# Altium schematic symbol library Nuvoton_Nano102_112 Series.SchLib: 12 symbols
Pins are listed as number, name and electrical type; pins without a type are passive.

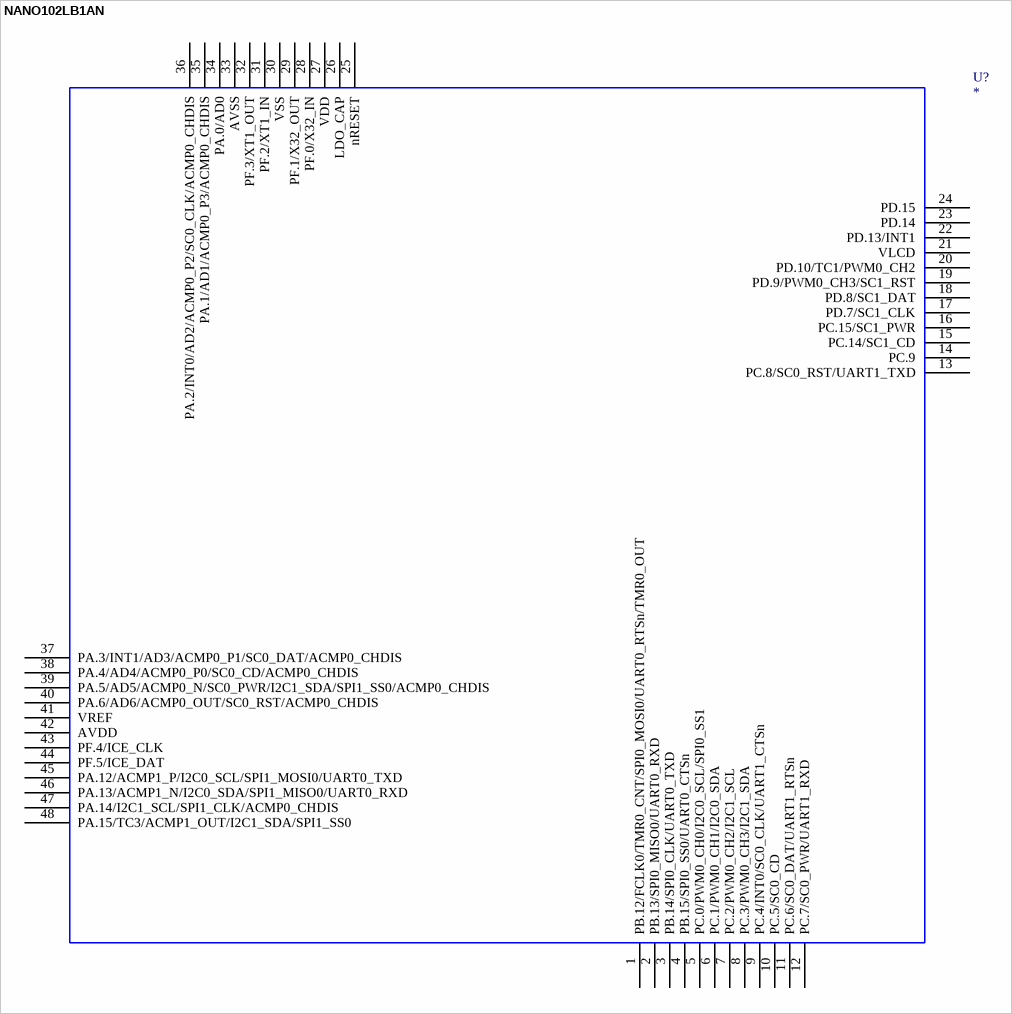
[diagram p0: symbol NANO102LB1AN]

## NANO102LB1AN
designator U?
NANO102LB1AN; OriginalSymbolOrigin: *; NANO102LB1AN: *; Value: *
footprint __MCU_LQFP_48__
pins: 1 PB.12/FCLK0/TMR0_CNT/SPI0_MOSI0/UART0_RTSn/TMR0_OUT, 2 PB.13/SPI0_MISO0/UART0_RXD, 3 PB.14/SPI0_CLK/UART0_TXD, 4 PB.15/SPI0_SS0/UART0_CTSn, 5 PC.0/PWM0_CH0/I2C0_SCL/SPI0_SS1, 6 PC.1/PWM0_CH1/I2C0_SDA, 7 PC.2/PWM0_CH2/I2C1_SCL, 8 PC.3/PWM0_CH3/I2C1_SDA, 9 PC.4/INT0/SC0_CLK/UART1_CTSn, 10 PC.5/SC0_CD, 11 PC.6/SC0_DAT/UART1_RTSn, 12 PC.7/SC0_PWR/UART1_RXD, 13 PC.8/SC0_RST/UART1_TXD, 14 PC.9, 15 PC.14/SC1_CD, 16 PC.15/SC1_PWR, 17 PD.7/SC1_CLK, 18 PD.8/SC1_DAT, 19 PD.9/PWM0_CH3/SC1_RST, 20 PD.10/TC1/PWM0_CH2, 21 VLCD, 22 PD.13/INT1, 23 PD.14, 24 PD.15, 25 nRESET, 26 LDO_CAP, 27 VDD, 28 PF.0/X32_IN, 29 PF.1/X32_OUT, 30 VSS, 31 PF.2/XT1_IN, 32 PF.3/XT1_OUT, 33 AVSS, 34 PA.0/AD0, 35 PA.1/AD1/ACMP0_P3/ACMP0_CHDIS, 36 PA.2/INT0/AD2/ACMP0_P2/SC0_CLK/ACMP0_CHDIS, 37 PA.3/INT1/AD3/ACMP0_P1/SC0_DAT/ACMP0_CHDIS, 38 PA.4/AD4/ACMP0_P0/SC0_CD/ACMP0_CHDIS, 39 PA.5/AD5/ACMP0_N/SC0_PWR/I2C1_SDA/SPI1_SS0/ACMP0_CHDIS, 40 PA.6/AD6/ACMP0_OUT/SC0_RST/ACMP0_CHDIS, 41 VREF, 42 AVDD, 43 PF.4/ICE_CLK, 44 PF.5/ICE_DAT, 45 PA.12/ACMP1_P/I2C0_SCL/SPI1_MOSI0/UART0_TXD, 46 PA.13/ACMP1_N/I2C0_SDA/SPI1_MISO0/UART0_RXD, 47 PA.14/I2C1_SCL/SPI1_CLK/ACMP0_CHDIS, 48 PA.15/TC3/ACMP1_OUT/I2C1_SDA/SPI1_SS0
2 alternate drawings of the same symbol

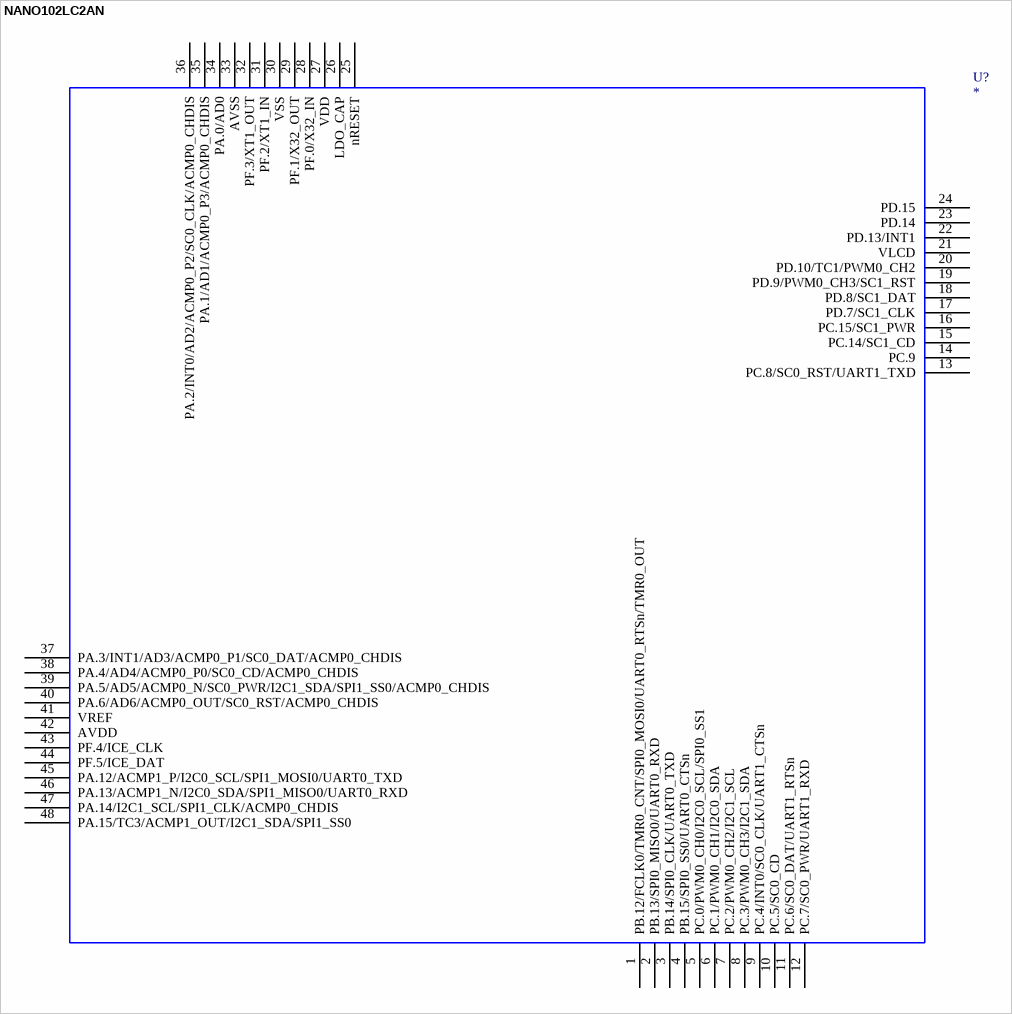
[diagram p1: symbol NANO102LC2AN]

## NANO102LC2AN
designator U?
NANO102LC2AN; OriginalSymbolOrigin: *; NANO102LC2AN: *; Value: *
footprint __MCU_LQFP_48__
pins: 1 PB.12/FCLK0/TMR0_CNT/SPI0_MOSI0/UART0_RTSn/TMR0_OUT, 2 PB.13/SPI0_MISO0/UART0_RXD, 3 PB.14/SPI0_CLK/UART0_TXD, 4 PB.15/SPI0_SS0/UART0_CTSn, 5 PC.0/PWM0_CH0/I2C0_SCL/SPI0_SS1, 6 PC.1/PWM0_CH1/I2C0_SDA, 7 PC.2/PWM0_CH2/I2C1_SCL, 8 PC.3/PWM0_CH3/I2C1_SDA, 9 PC.4/INT0/SC0_CLK/UART1_CTSn, 10 PC.5/SC0_CD, 11 PC.6/SC0_DAT/UART1_RTSn, 12 PC.7/SC0_PWR/UART1_RXD, 13 PC.8/SC0_RST/UART1_TXD, 14 PC.9, 15 PC.14/SC1_CD, 16 PC.15/SC1_PWR, 17 PD.7/SC1_CLK, 18 PD.8/SC1_DAT, 19 PD.9/PWM0_CH3/SC1_RST, 20 PD.10/TC1/PWM0_CH2, 21 VLCD, 22 PD.13/INT1, 23 PD.14, 24 PD.15, 25 nRESET, 26 LDO_CAP, 27 VDD, 28 PF.0/X32_IN, 29 PF.1/X32_OUT, 30 VSS, 31 PF.2/XT1_IN, 32 PF.3/XT1_OUT, 33 AVSS, 34 PA.0/AD0, 35 PA.1/AD1/ACMP0_P3/ACMP0_CHDIS, 36 PA.2/INT0/AD2/ACMP0_P2/SC0_CLK/ACMP0_CHDIS, 37 PA.3/INT1/AD3/ACMP0_P1/SC0_DAT/ACMP0_CHDIS, 38 PA.4/AD4/ACMP0_P0/SC0_CD/ACMP0_CHDIS, 39 PA.5/AD5/ACMP0_N/SC0_PWR/I2C1_SDA/SPI1_SS0/ACMP0_CHDIS, 40 PA.6/AD6/ACMP0_OUT/SC0_RST/ACMP0_CHDIS, 41 VREF, 42 AVDD, 43 PF.4/ICE_CLK, 44 PF.5/ICE_DAT, 45 PA.12/ACMP1_P/I2C0_SCL/SPI1_MOSI0/UART0_TXD, 46 PA.13/ACMP1_N/I2C0_SDA/SPI1_MISO0/UART0_RXD, 47 PA.14/I2C1_SCL/SPI1_CLK/ACMP0_CHDIS, 48 PA.15/TC3/ACMP1_OUT/I2C1_SDA/SPI1_SS0
2 alternate drawings of the same symbol

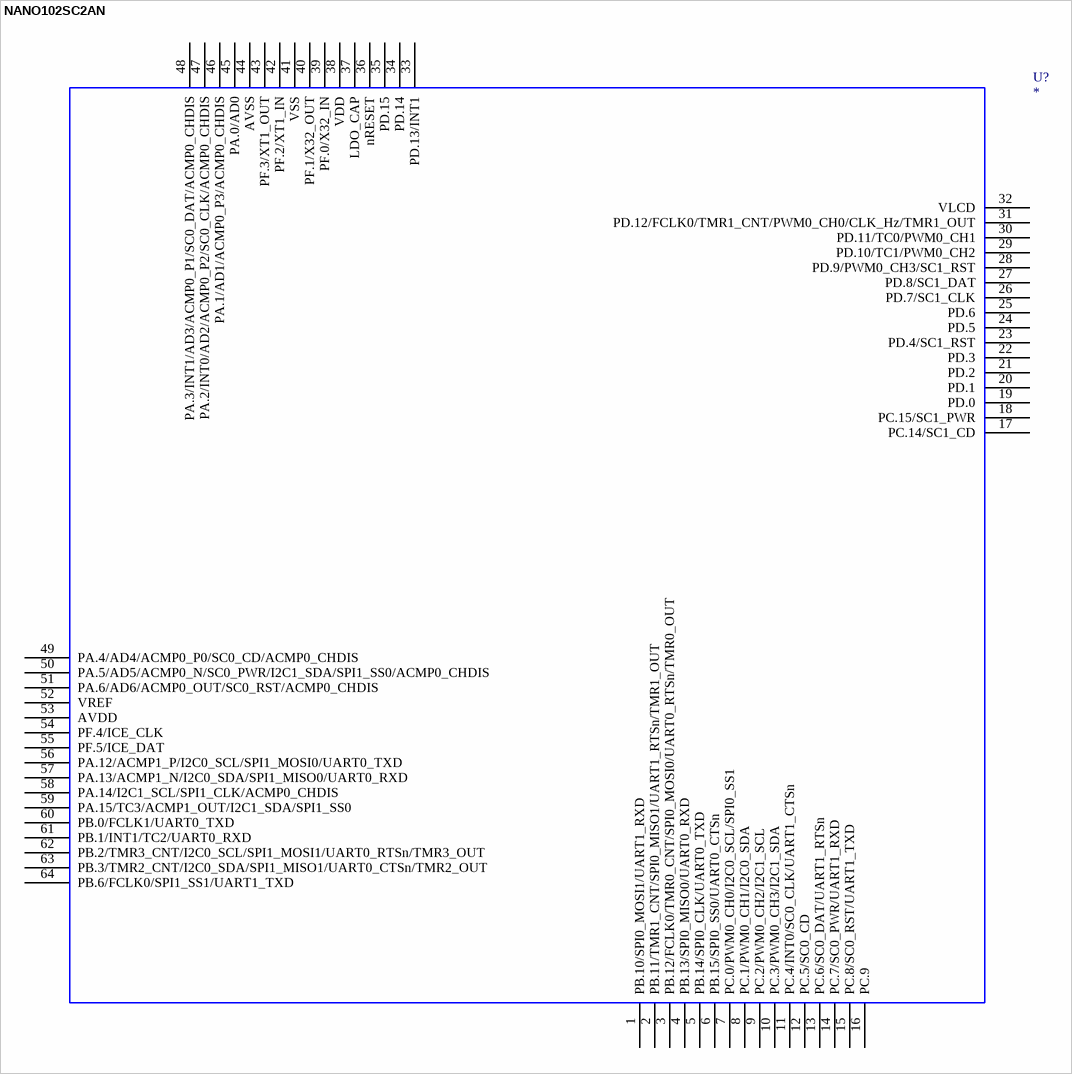
[diagram p2: symbol NANO102SC2AN]

## NANO102SC2AN
designator U?
NANO102SC2AN; OriginalSymbolOrigin: *; NANO102SC2AN: *; Value: *
footprint __MCU_LQFP_64_7x7__
pins: 1 PB.10/SPI0_MOSI1/UART1_RXD, 2 PB.11/TMR1_CNT/SPI0_MISO1/UART1_RTSn/TMR1_OUT, 3 PB.12/FCLK0/TMR0_CNT/SPI0_MOSI0/UART0_RTSn/TMR0_OUT, 4 PB.13/SPI0_MISO0/UART0_RXD, 5 PB.14/SPI0_CLK/UART0_TXD, 6 PB.15/SPI0_SS0/UART0_CTSn, 7 PC.0/PWM0_CH0/I2C0_SCL/SPI0_SS1, 8 PC.1/PWM0_CH1/I2C0_SDA, 9 PC.2/PWM0_CH2/I2C1_SCL, 10 PC.3/PWM0_CH3/I2C1_SDA, 11 PC.4/INT0/SC0_CLK/UART1_CTSn, 12 PC.5/SC0_CD, 13 PC.6/SC0_DAT/UART1_RTSn, 14 PC.7/SC0_PWR/UART1_RXD, 15 PC.8/SC0_RST/UART1_TXD, 16 PC.9, 17 PC.14/SC1_CD, 18 PC.15/SC1_PWR, 19 PD.0, 20 PD.1, 21 PD.2, 22 PD.3, 23 PD.4/SC1_RST, 24 PD.5, 25 PD.6, 26 PD.7/SC1_CLK, 27 PD.8/SC1_DAT, 28 PD.9/PWM0_CH3/SC1_RST, 29 PD.10/TC1/PWM0_CH2, 30 PD.11/TC0/PWM0_CH1, 31 PD.12/FCLK0/TMR1_CNT/PWM0_CH0/CLK_Hz/TMR1_OUT, 32 VLCD, 33 PD.13/INT1, 34 PD.14, 35 PD.15, 36 nRESET, 37 LDO_CAP, 38 VDD, 39 PF.0/X32_IN, 40 PF.1/X32_OUT, 41 VSS, 42 PF.2/XT1_IN, 43 PF.3/XT1_OUT, 44 AVSS, 45 PA.0/AD0, 46 PA.1/AD1/ACMP0_P3/ACMP0_CHDIS, 47 PA.2/INT0/AD2/ACMP0_P2/SC0_CLK/ACMP0_CHDIS, 48 PA.3/INT1/AD3/ACMP0_P1/SC0_DAT/ACMP0_CHDIS, 49 PA.4/AD4/ACMP0_P0/SC0_CD/ACMP0_CHDIS, 50 PA.5/AD5/ACMP0_N/SC0_PWR/I2C1_SDA/SPI1_SS0/ACMP0_CHDIS, 51 PA.6/AD6/ACMP0_OUT/SC0_RST/ACMP0_CHDIS, 52 VREF, 53 AVDD, 54 PF.4/ICE_CLK, 55 PF.5/ICE_DAT, 56 PA.12/ACMP1_P/I2C0_SCL/SPI1_MOSI0/UART0_TXD, 57 PA.13/ACMP1_N/I2C0_SDA/SPI1_MISO0/UART0_RXD, 58 PA.14/I2C1_SCL/SPI1_CLK/ACMP0_CHDIS, 59 PA.15/TC3/ACMP1_OUT/I2C1_SDA/SPI1_SS0, 60 PB.0/FCLK1/UART0_TXD, 61 PB.1/INT1/TC2/UART0_RXD, 62 PB.2/TMR3_CNT/I2C0_SCL/SPI1_MOSI1/UART0_RTSn/TMR3_OUT, 63 PB.3/TMR2_CNT/I2C0_SDA/SPI1_MISO1/UART0_CTSn/TMR2_OUT, 64 PB.6/FCLK0/SPI1_SS1/UART1_TXD
2 alternate drawings of the same symbol

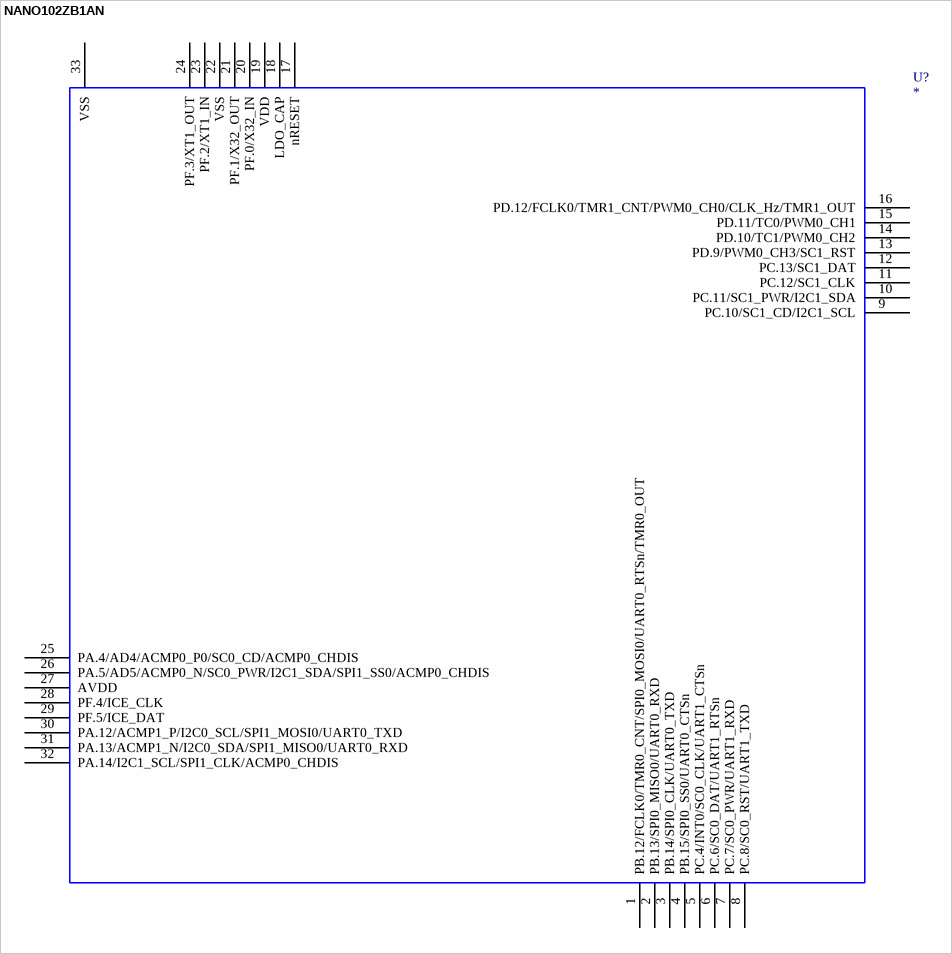
[diagram p3: symbol NANO102ZB1AN]

## NANO102ZB1AN
designator U?
NANO102ZB1AN; OriginalSymbolOrigin: *; NANO102ZB1AN: *; Value: *
footprint __MCU_QFN_33_5x5__
pins: 1 PB.12/FCLK0/TMR0_CNT/SPI0_MOSI0/UART0_RTSn/TMR0_OUT, 2 PB.13/SPI0_MISO0/UART0_RXD, 3 PB.14/SPI0_CLK/UART0_TXD, 4 PB.15/SPI0_SS0/UART0_CTSn, 5 PC.4/INT0/SC0_CLK/UART1_CTSn, 6 PC.6/SC0_DAT/UART1_RTSn, 7 PC.7/SC0_PWR/UART1_RXD, 8 PC.8/SC0_RST/UART1_TXD, 9 PC.10/SC1_CD/I2C1_SCL, 10 PC.11/SC1_PWR/I2C1_SDA, 11 PC.12/SC1_CLK, 12 PC.13/SC1_DAT, 13 PD.9/PWM0_CH3/SC1_RST, 14 PD.10/TC1/PWM0_CH2, 15 PD.11/TC0/PWM0_CH1, 16 PD.12/FCLK0/TMR1_CNT/PWM0_CH0/CLK_Hz/TMR1_OUT, 17 nRESET, 18 LDO_CAP, 19 VDD, 20 PF.0/X32_IN, 21 PF.1/X32_OUT, 22 VSS, 23 PF.2/XT1_IN, 24 PF.3/XT1_OUT, 25 PA.4/AD4/ACMP0_P0/SC0_CD/ACMP0_CHDIS, 26 PA.5/AD5/ACMP0_N/SC0_PWR/I2C1_SDA/SPI1_SS0/ACMP0_CHDIS, 27 AVDD, 28 PF.4/ICE_CLK, 29 PF.5/ICE_DAT, 30 PA.12/ACMP1_P/I2C0_SCL/SPI1_MOSI0/UART0_TXD, 31 PA.13/ACMP1_N/I2C0_SDA/SPI1_MISO0/UART0_RXD, 32 PA.14/I2C1_SCL/SPI1_CLK/ACMP0_CHDIS, 33 VSS
2 alternate drawings of the same symbol

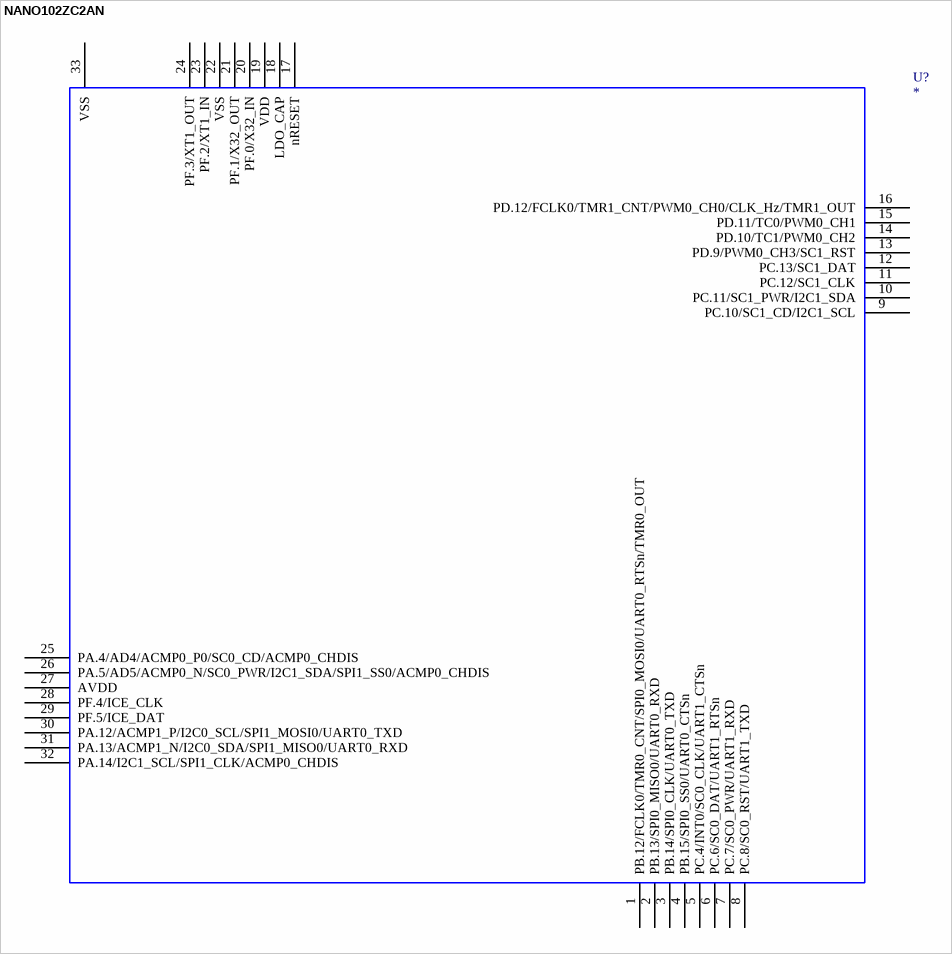
[diagram p4: symbol NANO102ZC2AN]

## NANO102ZC2AN
designator U?
NANO102ZC2AN; OriginalSymbolOrigin: *; NANO102ZC2AN: *; Value: *
footprint __MCU_QFN_33_5x5__
pins: 1 PB.12/FCLK0/TMR0_CNT/SPI0_MOSI0/UART0_RTSn/TMR0_OUT, 2 PB.13/SPI0_MISO0/UART0_RXD, 3 PB.14/SPI0_CLK/UART0_TXD, 4 PB.15/SPI0_SS0/UART0_CTSn, 5 PC.4/INT0/SC0_CLK/UART1_CTSn, 6 PC.6/SC0_DAT/UART1_RTSn, 7 PC.7/SC0_PWR/UART1_RXD, 8 PC.8/SC0_RST/UART1_TXD, 9 PC.10/SC1_CD/I2C1_SCL, 10 PC.11/SC1_PWR/I2C1_SDA, 11 PC.12/SC1_CLK, 12 PC.13/SC1_DAT, 13 PD.9/PWM0_CH3/SC1_RST, 14 PD.10/TC1/PWM0_CH2, 15 PD.11/TC0/PWM0_CH1, 16 PD.12/FCLK0/TMR1_CNT/PWM0_CH0/CLK_Hz/TMR1_OUT, 17 nRESET, 18 LDO_CAP, 19 VDD, 20 PF.0/X32_IN, 21 PF.1/X32_OUT, 22 VSS, 23 PF.2/XT1_IN, 24 PF.3/XT1_OUT, 25 PA.4/AD4/ACMP0_P0/SC0_CD/ACMP0_CHDIS, 26 PA.5/AD5/ACMP0_N/SC0_PWR/I2C1_SDA/SPI1_SS0/ACMP0_CHDIS, 27 AVDD, 28 PF.4/ICE_CLK, 29 PF.5/ICE_DAT, 30 PA.12/ACMP1_P/I2C0_SCL/SPI1_MOSI0/UART0_TXD, 31 PA.13/ACMP1_N/I2C0_SDA/SPI1_MISO0/UART0_RXD, 32 PA.14/I2C1_SCL/SPI1_CLK/ACMP0_CHDIS, 33 VSS
2 alternate drawings of the same symbol

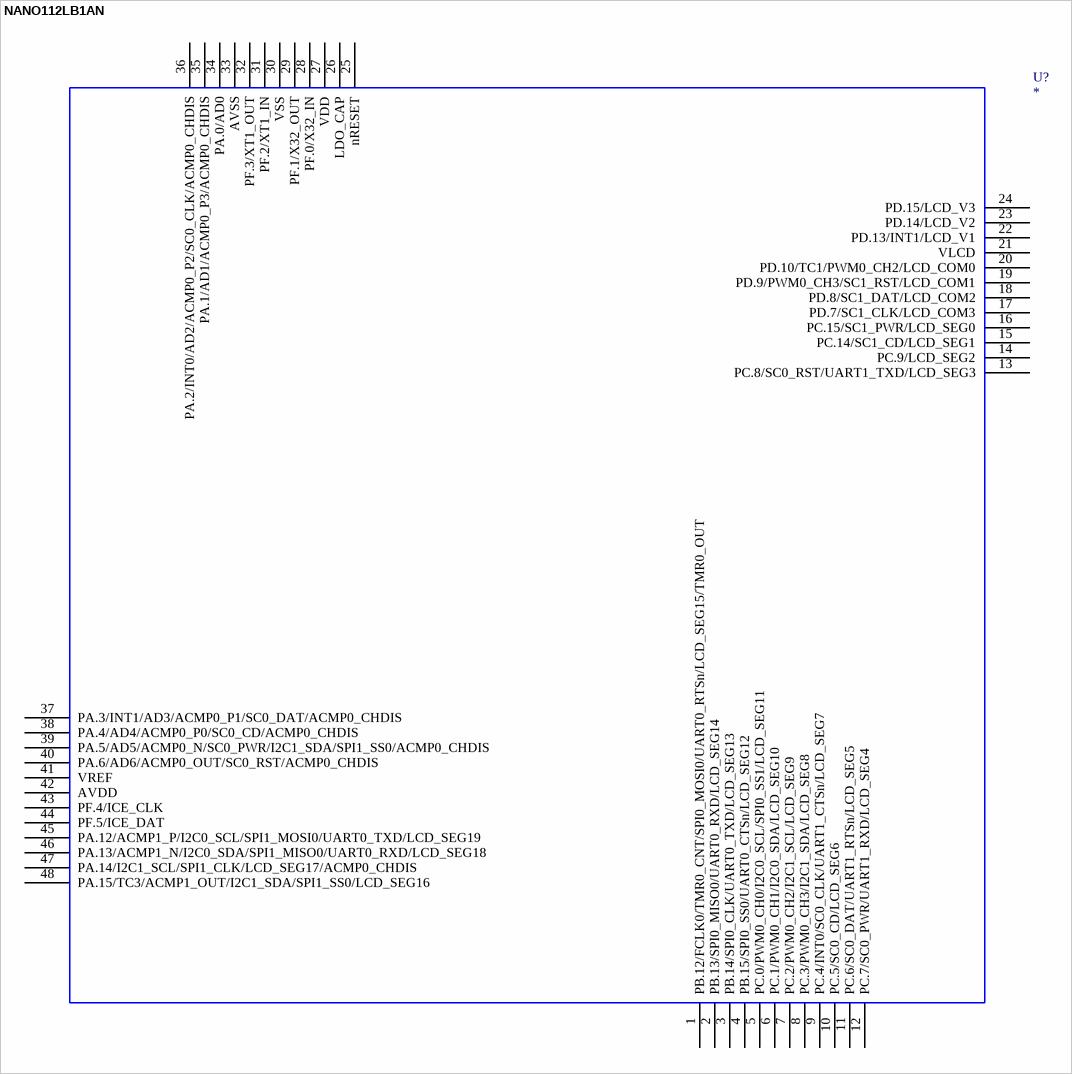
[diagram p5: symbol NANO112LB1AN]

## NANO112LB1AN
designator U?
NANO112LB1AN; OriginalSymbolOrigin: *; NANO112LB1AN: *; Value: *
footprint __MCU_LQFP_48__
pins: 1 PB.12/FCLK0/TMR0_CNT/SPI0_MOSI0/UART0_RTSn/LCD_SEG15/TMR0_OUT, 2 PB.13/SPI0_MISO0/UART0_RXD/LCD_SEG14, 3 PB.14/SPI0_CLK/UART0_TXD/LCD_SEG13, 4 PB.15/SPI0_SS0/UART0_CTSn/LCD_SEG12, 5 PC.0/PWM0_CH0/I2C0_SCL/SPI0_SS1/LCD_SEG11, 6 PC.1/PWM0_CH1/I2C0_SDA/LCD_SEG10, 7 PC.2/PWM0_CH2/I2C1_SCL/LCD_SEG9, 8 PC.3/PWM0_CH3/I2C1_SDA/LCD_SEG8, 9 PC.4/INT0/SC0_CLK/UART1_CTSn/LCD_SEG7, 10 PC.5/SC0_CD/LCD_SEG6, 11 PC.6/SC0_DAT/UART1_RTSn/LCD_SEG5, 12 PC.7/SC0_PWR/UART1_RXD/LCD_SEG4, 13 PC.8/SC0_RST/UART1_TXD/LCD_SEG3, 14 PC.9/LCD_SEG2, 15 PC.14/SC1_CD/LCD_SEG1, 16 PC.15/SC1_PWR/LCD_SEG0, 17 PD.7/SC1_CLK/LCD_COM3, 18 PD.8/SC1_DAT/LCD_COM2, 19 PD.9/PWM0_CH3/SC1_RST/LCD_COM1, 20 PD.10/TC1/PWM0_CH2/LCD_COM0, 21 VLCD, 22 PD.13/INT1/LCD_V1, 23 PD.14/LCD_V2, 24 PD.15/LCD_V3, 25 nRESET, 26 LDO_CAP, 27 VDD, 28 PF.0/X32_IN, 29 PF.1/X32_OUT, 30 VSS, 31 PF.2/XT1_IN, 32 PF.3/XT1_OUT, 33 AVSS, 34 PA.0/AD0, 35 PA.1/AD1/ACMP0_P3/ACMP0_CHDIS, 36 PA.2/INT0/AD2/ACMP0_P2/SC0_CLK/ACMP0_CHDIS, 37 PA.3/INT1/AD3/ACMP0_P1/SC0_DAT/ACMP0_CHDIS, 38 PA.4/AD4/ACMP0_P0/SC0_CD/ACMP0_CHDIS, 39 PA.5/AD5/ACMP0_N/SC0_PWR/I2C1_SDA/SPI1_SS0/ACMP0_CHDIS, 40 PA.6/AD6/ACMP0_OUT/SC0_RST/ACMP0_CHDIS, 41 VREF, 42 AVDD, 43 PF.4/ICE_CLK, 44 PF.5/ICE_DAT, 45 PA.12/ACMP1_P/I2C0_SCL/SPI1_MOSI0/UART0_TXD/LCD_SEG19, 46 PA.13/ACMP1_N/I2C0_SDA/SPI1_MISO0/UART0_RXD/LCD_SEG18, 47 PA.14/I2C1_SCL/SPI1_CLK/LCD_SEG17/ACMP0_CHDIS, 48 PA.15/TC3/ACMP1_OUT/I2C1_SDA/SPI1_SS0/LCD_SEG16
2 alternate drawings of the same symbol

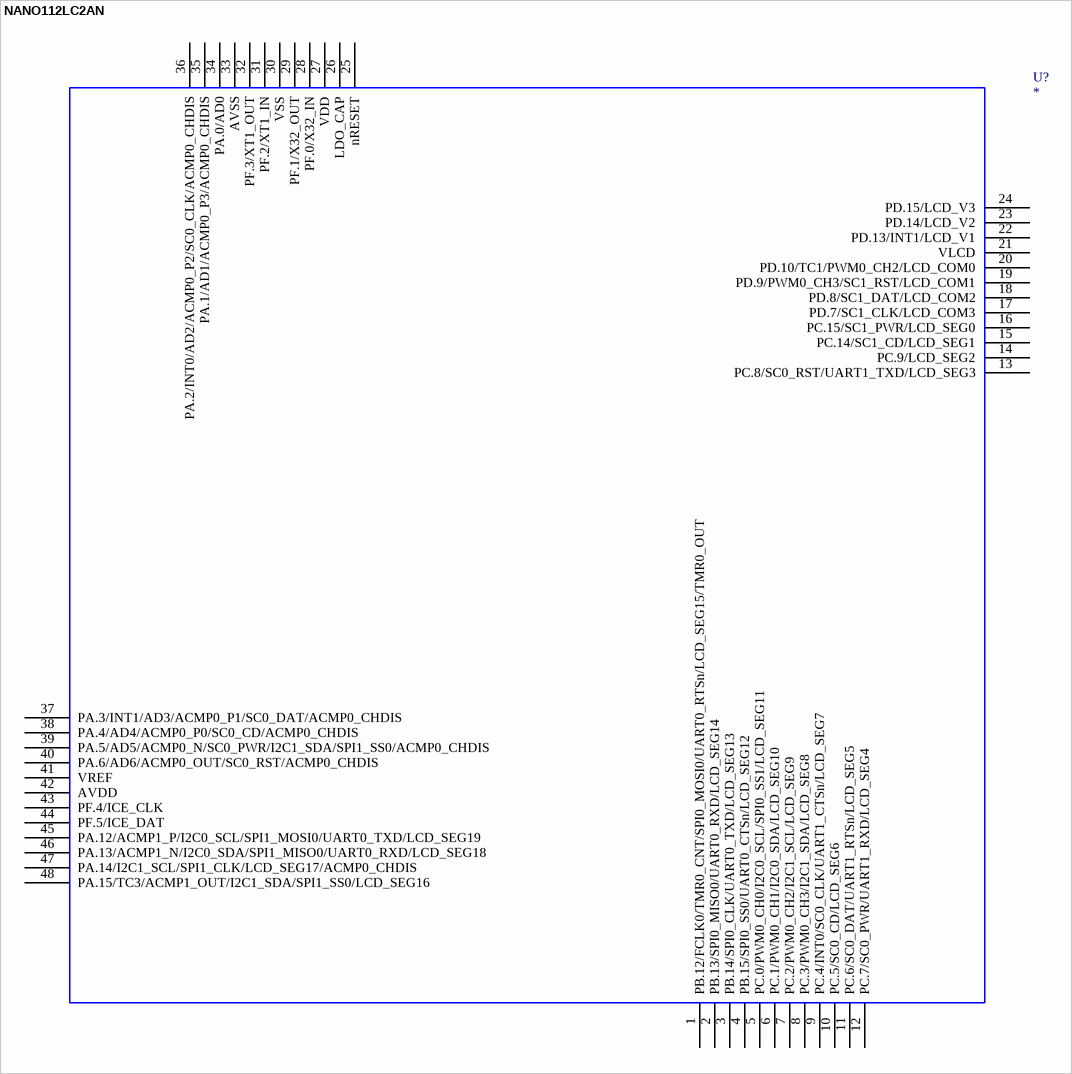
[diagram p6: symbol NANO112LC2AN]

## NANO112LC2AN
designator U?
NANO112LC2AN; OriginalSymbolOrigin: *; NANO112LC2AN: *; Value: *
footprint __MCU_LQFP_48__
pins: 1 PB.12/FCLK0/TMR0_CNT/SPI0_MOSI0/UART0_RTSn/LCD_SEG15/TMR0_OUT, 2 PB.13/SPI0_MISO0/UART0_RXD/LCD_SEG14, 3 PB.14/SPI0_CLK/UART0_TXD/LCD_SEG13, 4 PB.15/SPI0_SS0/UART0_CTSn/LCD_SEG12, 5 PC.0/PWM0_CH0/I2C0_SCL/SPI0_SS1/LCD_SEG11, 6 PC.1/PWM0_CH1/I2C0_SDA/LCD_SEG10, 7 PC.2/PWM0_CH2/I2C1_SCL/LCD_SEG9, 8 PC.3/PWM0_CH3/I2C1_SDA/LCD_SEG8, 9 PC.4/INT0/SC0_CLK/UART1_CTSn/LCD_SEG7, 10 PC.5/SC0_CD/LCD_SEG6, 11 PC.6/SC0_DAT/UART1_RTSn/LCD_SEG5, 12 PC.7/SC0_PWR/UART1_RXD/LCD_SEG4, 13 PC.8/SC0_RST/UART1_TXD/LCD_SEG3, 14 PC.9/LCD_SEG2, 15 PC.14/SC1_CD/LCD_SEG1, 16 PC.15/SC1_PWR/LCD_SEG0, 17 PD.7/SC1_CLK/LCD_COM3, 18 PD.8/SC1_DAT/LCD_COM2, 19 PD.9/PWM0_CH3/SC1_RST/LCD_COM1, 20 PD.10/TC1/PWM0_CH2/LCD_COM0, 21 VLCD, 22 PD.13/INT1/LCD_V1, 23 PD.14/LCD_V2, 24 PD.15/LCD_V3, 25 nRESET, 26 LDO_CAP, 27 VDD, 28 PF.0/X32_IN, 29 PF.1/X32_OUT, 30 VSS, 31 PF.2/XT1_IN, 32 PF.3/XT1_OUT, 33 AVSS, 34 PA.0/AD0, 35 PA.1/AD1/ACMP0_P3/ACMP0_CHDIS, 36 PA.2/INT0/AD2/ACMP0_P2/SC0_CLK/ACMP0_CHDIS, 37 PA.3/INT1/AD3/ACMP0_P1/SC0_DAT/ACMP0_CHDIS, 38 PA.4/AD4/ACMP0_P0/SC0_CD/ACMP0_CHDIS, 39 PA.5/AD5/ACMP0_N/SC0_PWR/I2C1_SDA/SPI1_SS0/ACMP0_CHDIS, 40 PA.6/AD6/ACMP0_OUT/SC0_RST/ACMP0_CHDIS, 41 VREF, 42 AVDD, 43 PF.4/ICE_CLK, 44 PF.5/ICE_DAT, 45 PA.12/ACMP1_P/I2C0_SCL/SPI1_MOSI0/UART0_TXD/LCD_SEG19, 46 PA.13/ACMP1_N/I2C0_SDA/SPI1_MISO0/UART0_RXD/LCD_SEG18, 47 PA.14/I2C1_SCL/SPI1_CLK/LCD_SEG17/ACMP0_CHDIS, 48 PA.15/TC3/ACMP1_OUT/I2C1_SDA/SPI1_SS0/LCD_SEG16
2 alternate drawings of the same symbol

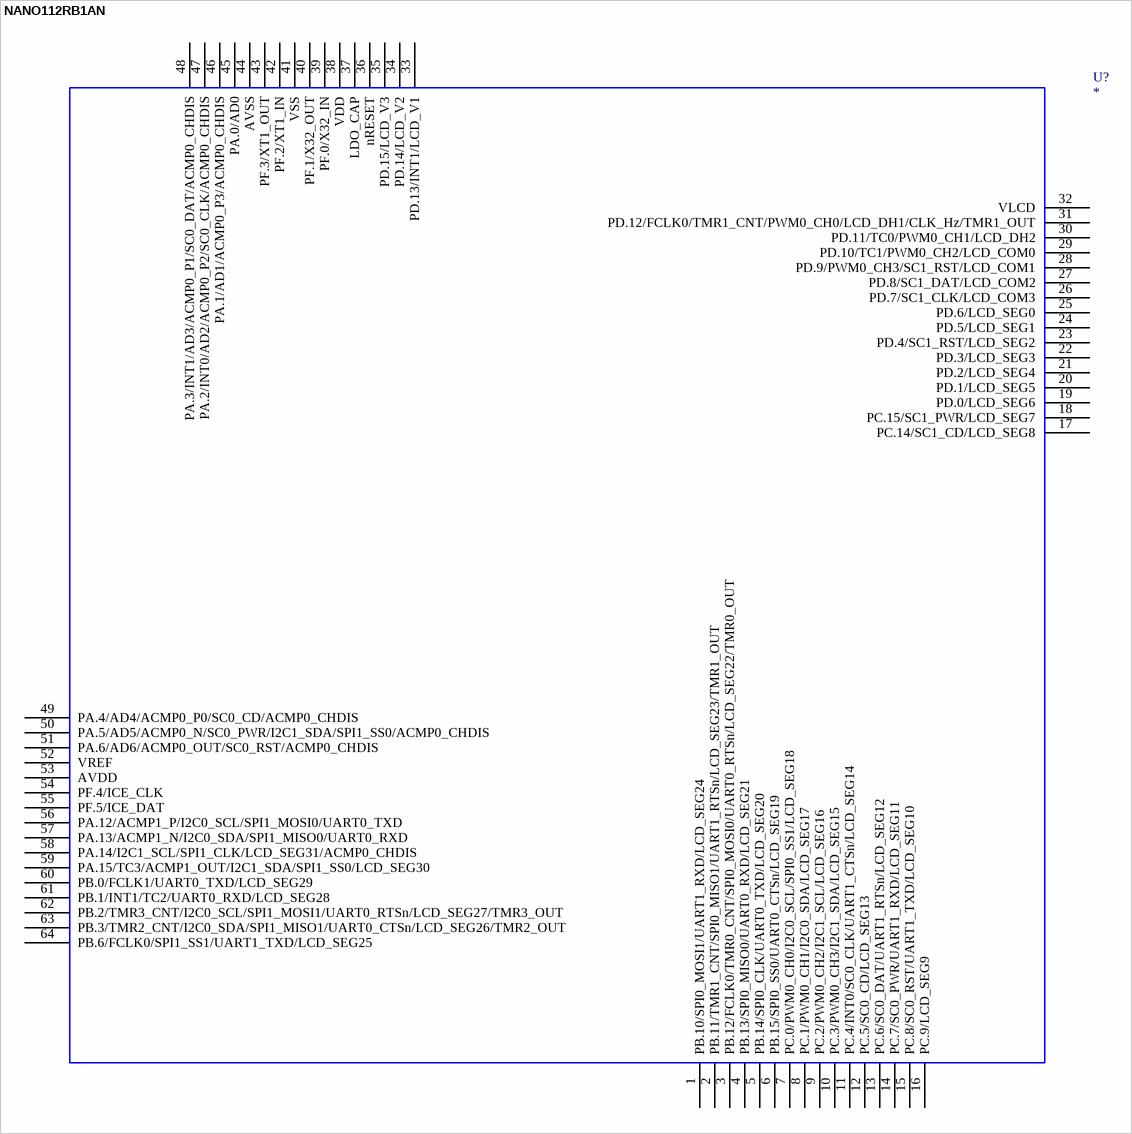
[diagram p7: symbol NANO112RB1AN]

## NANO112RB1AN
designator U?
NANO112RB1AN; OriginalSymbolOrigin: *; NANO112RB1AN: *; Value: *
footprint __MCU_LQFP_64_10x10__
pins: 1 PB.10/SPI0_MOSI1/UART1_RXD/LCD_SEG24, 2 PB.11/TMR1_CNT/SPI0_MISO1/UART1_RTSn/LCD_SEG23/TMR1_OUT, 3 PB.12/FCLK0/TMR0_CNT/SPI0_MOSI0/UART0_RTSn/LCD_SEG22/TMR0_OUT, 4 PB.13/SPI0_MISO0/UART0_RXD/LCD_SEG21, 5 PB.14/SPI0_CLK/UART0_TXD/LCD_SEG20, 6 PB.15/SPI0_SS0/UART0_CTSn/LCD_SEG19, 7 PC.0/PWM0_CH0/I2C0_SCL/SPI0_SS1/LCD_SEG18, 8 PC.1/PWM0_CH1/I2C0_SDA/LCD_SEG17, 9 PC.2/PWM0_CH2/I2C1_SCL/LCD_SEG16, 10 PC.3/PWM0_CH3/I2C1_SDA/LCD_SEG15, 11 PC.4/INT0/SC0_CLK/UART1_CTSn/LCD_SEG14, 12 PC.5/SC0_CD/LCD_SEG13, 13 PC.6/SC0_DAT/UART1_RTSn/LCD_SEG12, 14 PC.7/SC0_PWR/UART1_RXD/LCD_SEG11, 15 PC.8/SC0_RST/UART1_TXD/LCD_SEG10, 16 PC.9/LCD_SEG9, 17 PC.14/SC1_CD/LCD_SEG8, 18 PC.15/SC1_PWR/LCD_SEG7, 19 PD.0/LCD_SEG6, 20 PD.1/LCD_SEG5, 21 PD.2/LCD_SEG4, 22 PD.3/LCD_SEG3, 23 PD.4/SC1_RST/LCD_SEG2, 24 PD.5/LCD_SEG1, 25 PD.6/LCD_SEG0, 26 PD.7/SC1_CLK/LCD_COM3, 27 PD.8/SC1_DAT/LCD_COM2, 28 PD.9/PWM0_CH3/SC1_RST/LCD_COM1, 29 PD.10/TC1/PWM0_CH2/LCD_COM0, 30 PD.11/TC0/PWM0_CH1/LCD_DH2, 31 PD.12/FCLK0/TMR1_CNT/PWM0_CH0/LCD_DH1/CLK_Hz/TMR1_OUT, 32 VLCD, 33 PD.13/INT1/LCD_V1, 34 PD.14/LCD_V2, 35 PD.15/LCD_V3, 36 nRESET, 37 LDO_CAP, 38 VDD, 39 PF.0/X32_IN, 40 PF.1/X32_OUT, 41 VSS, 42 PF.2/XT1_IN, 43 PF.3/XT1_OUT, 44 AVSS, 45 PA.0/AD0, 46 PA.1/AD1/ACMP0_P3/ACMP0_CHDIS, 47 PA.2/INT0/AD2/ACMP0_P2/SC0_CLK/ACMP0_CHDIS, 48 PA.3/INT1/AD3/ACMP0_P1/SC0_DAT/ACMP0_CHDIS, 49 PA.4/AD4/ACMP0_P0/SC0_CD/ACMP0_CHDIS, 50 PA.5/AD5/ACMP0_N/SC0_PWR/I2C1_SDA/SPI1_SS0/ACMP0_CHDIS, 51 PA.6/AD6/ACMP0_OUT/SC0_RST/ACMP0_CHDIS, 52 VREF, 53 AVDD, 54 PF.4/ICE_CLK, 55 PF.5/ICE_DAT, 56 PA.12/ACMP1_P/I2C0_SCL/SPI1_MOSI0/UART0_TXD, 57 PA.13/ACMP1_N/I2C0_SDA/SPI1_MISO0/UART0_RXD, 58 PA.14/I2C1_SCL/SPI1_CLK/LCD_SEG31/ACMP0_CHDIS, 59 PA.15/TC3/ACMP1_OUT/I2C1_SDA/SPI1_SS0/LCD_SEG30, 60 PB.0/FCLK1/UART0_TXD/LCD_SEG29, 61 PB.1/INT1/TC2/UART0_RXD/LCD_SEG28, 62 PB.2/TMR3_CNT/I2C0_SCL/SPI1_MOSI1/UART0_RTSn/LCD_SEG27/TMR3_OUT, 63 PB.3/TMR2_CNT/I2C0_SDA/SPI1_MISO1/UART0_CTSn/LCD_SEG26/TMR2_OUT, 64 PB.6/FCLK0/SPI1_SS1/UART1_TXD/LCD_SEG25
2 alternate drawings of the same symbol

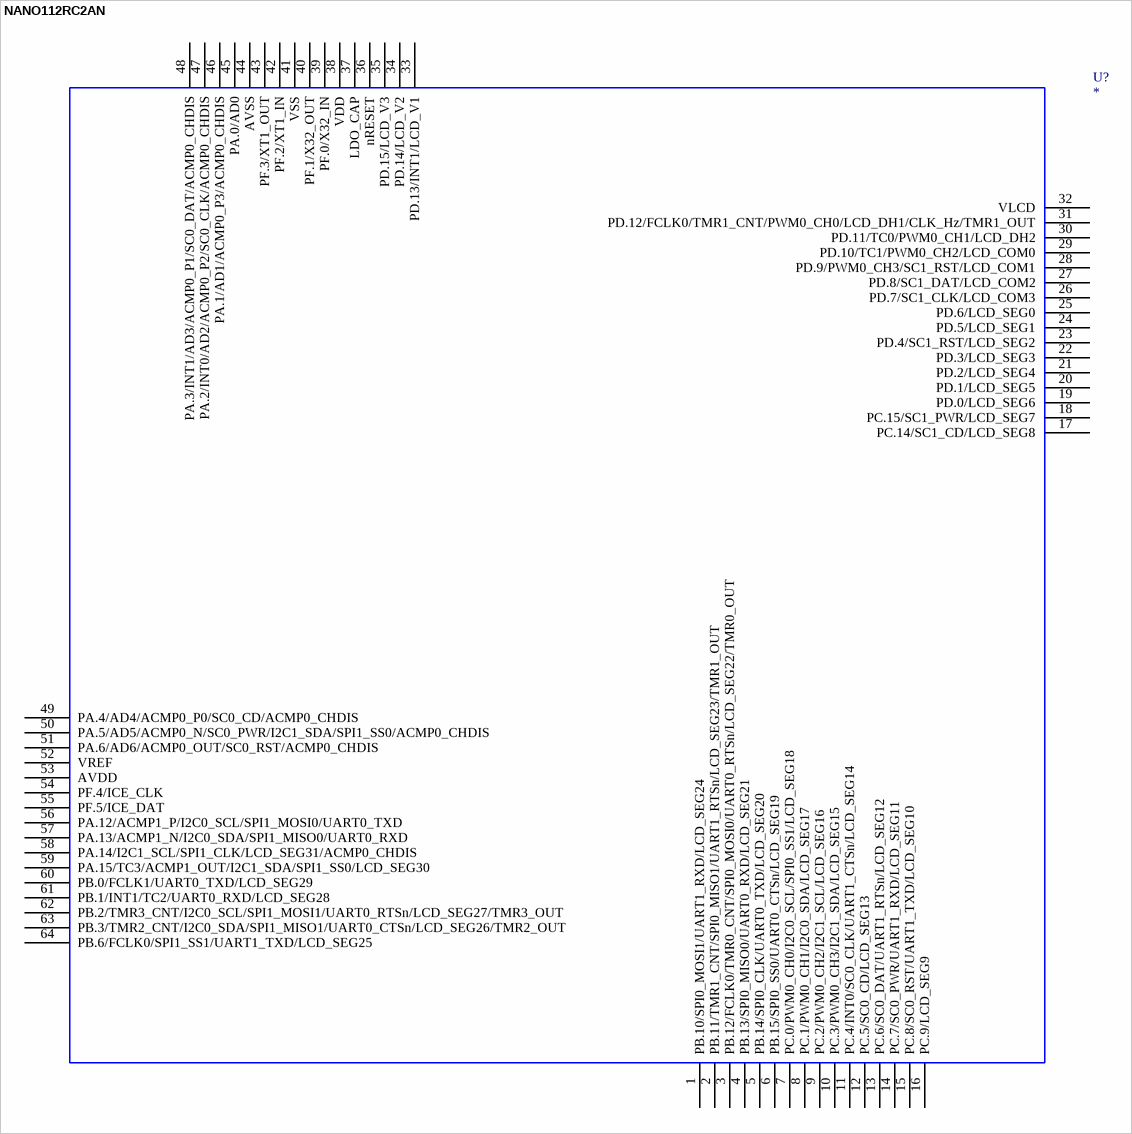
[diagram p8: symbol NANO112RC2AN]

## NANO112RC2AN
designator U?
NANO112RC2AN; OriginalSymbolOrigin: *; NANO112RC2AN: *; Value: *
footprint __MCU_LQFP_64_10x10__
pins: 1 PB.10/SPI0_MOSI1/UART1_RXD/LCD_SEG24, 2 PB.11/TMR1_CNT/SPI0_MISO1/UART1_RTSn/LCD_SEG23/TMR1_OUT, 3 PB.12/FCLK0/TMR0_CNT/SPI0_MOSI0/UART0_RTSn/LCD_SEG22/TMR0_OUT, 4 PB.13/SPI0_MISO0/UART0_RXD/LCD_SEG21, 5 PB.14/SPI0_CLK/UART0_TXD/LCD_SEG20, 6 PB.15/SPI0_SS0/UART0_CTSn/LCD_SEG19, 7 PC.0/PWM0_CH0/I2C0_SCL/SPI0_SS1/LCD_SEG18, 8 PC.1/PWM0_CH1/I2C0_SDA/LCD_SEG17, 9 PC.2/PWM0_CH2/I2C1_SCL/LCD_SEG16, 10 PC.3/PWM0_CH3/I2C1_SDA/LCD_SEG15, 11 PC.4/INT0/SC0_CLK/UART1_CTSn/LCD_SEG14, 12 PC.5/SC0_CD/LCD_SEG13, 13 PC.6/SC0_DAT/UART1_RTSn/LCD_SEG12, 14 PC.7/SC0_PWR/UART1_RXD/LCD_SEG11, 15 PC.8/SC0_RST/UART1_TXD/LCD_SEG10, 16 PC.9/LCD_SEG9, 17 PC.14/SC1_CD/LCD_SEG8, 18 PC.15/SC1_PWR/LCD_SEG7, 19 PD.0/LCD_SEG6, 20 PD.1/LCD_SEG5, 21 PD.2/LCD_SEG4, 22 PD.3/LCD_SEG3, 23 PD.4/SC1_RST/LCD_SEG2, 24 PD.5/LCD_SEG1, 25 PD.6/LCD_SEG0, 26 PD.7/SC1_CLK/LCD_COM3, 27 PD.8/SC1_DAT/LCD_COM2, 28 PD.9/PWM0_CH3/SC1_RST/LCD_COM1, 29 PD.10/TC1/PWM0_CH2/LCD_COM0, 30 PD.11/TC0/PWM0_CH1/LCD_DH2, 31 PD.12/FCLK0/TMR1_CNT/PWM0_CH0/LCD_DH1/CLK_Hz/TMR1_OUT, 32 VLCD, 33 PD.13/INT1/LCD_V1, 34 PD.14/LCD_V2, 35 PD.15/LCD_V3, 36 nRESET, 37 LDO_CAP, 38 VDD, 39 PF.0/X32_IN, 40 PF.1/X32_OUT, 41 VSS, 42 PF.2/XT1_IN, 43 PF.3/XT1_OUT, 44 AVSS, 45 PA.0/AD0, 46 PA.1/AD1/ACMP0_P3/ACMP0_CHDIS, 47 PA.2/INT0/AD2/ACMP0_P2/SC0_CLK/ACMP0_CHDIS, 48 PA.3/INT1/AD3/ACMP0_P1/SC0_DAT/ACMP0_CHDIS, 49 PA.4/AD4/ACMP0_P0/SC0_CD/ACMP0_CHDIS, 50 PA.5/AD5/ACMP0_N/SC0_PWR/I2C1_SDA/SPI1_SS0/ACMP0_CHDIS, 51 PA.6/AD6/ACMP0_OUT/SC0_RST/ACMP0_CHDIS, 52 VREF, 53 AVDD, 54 PF.4/ICE_CLK, 55 PF.5/ICE_DAT, 56 PA.12/ACMP1_P/I2C0_SCL/SPI1_MOSI0/UART0_TXD, 57 PA.13/ACMP1_N/I2C0_SDA/SPI1_MISO0/UART0_RXD, 58 PA.14/I2C1_SCL/SPI1_CLK/LCD_SEG31/ACMP0_CHDIS, 59 PA.15/TC3/ACMP1_OUT/I2C1_SDA/SPI1_SS0/LCD_SEG30, 60 PB.0/FCLK1/UART0_TXD/LCD_SEG29, 61 PB.1/INT1/TC2/UART0_RXD/LCD_SEG28, 62 PB.2/TMR3_CNT/I2C0_SCL/SPI1_MOSI1/UART0_RTSn/LCD_SEG27/TMR3_OUT, 63 PB.3/TMR2_CNT/I2C0_SDA/SPI1_MISO1/UART0_CTSn/LCD_SEG26/TMR2_OUT, 64 PB.6/FCLK0/SPI1_SS1/UART1_TXD/LCD_SEG25
2 alternate drawings of the same symbol

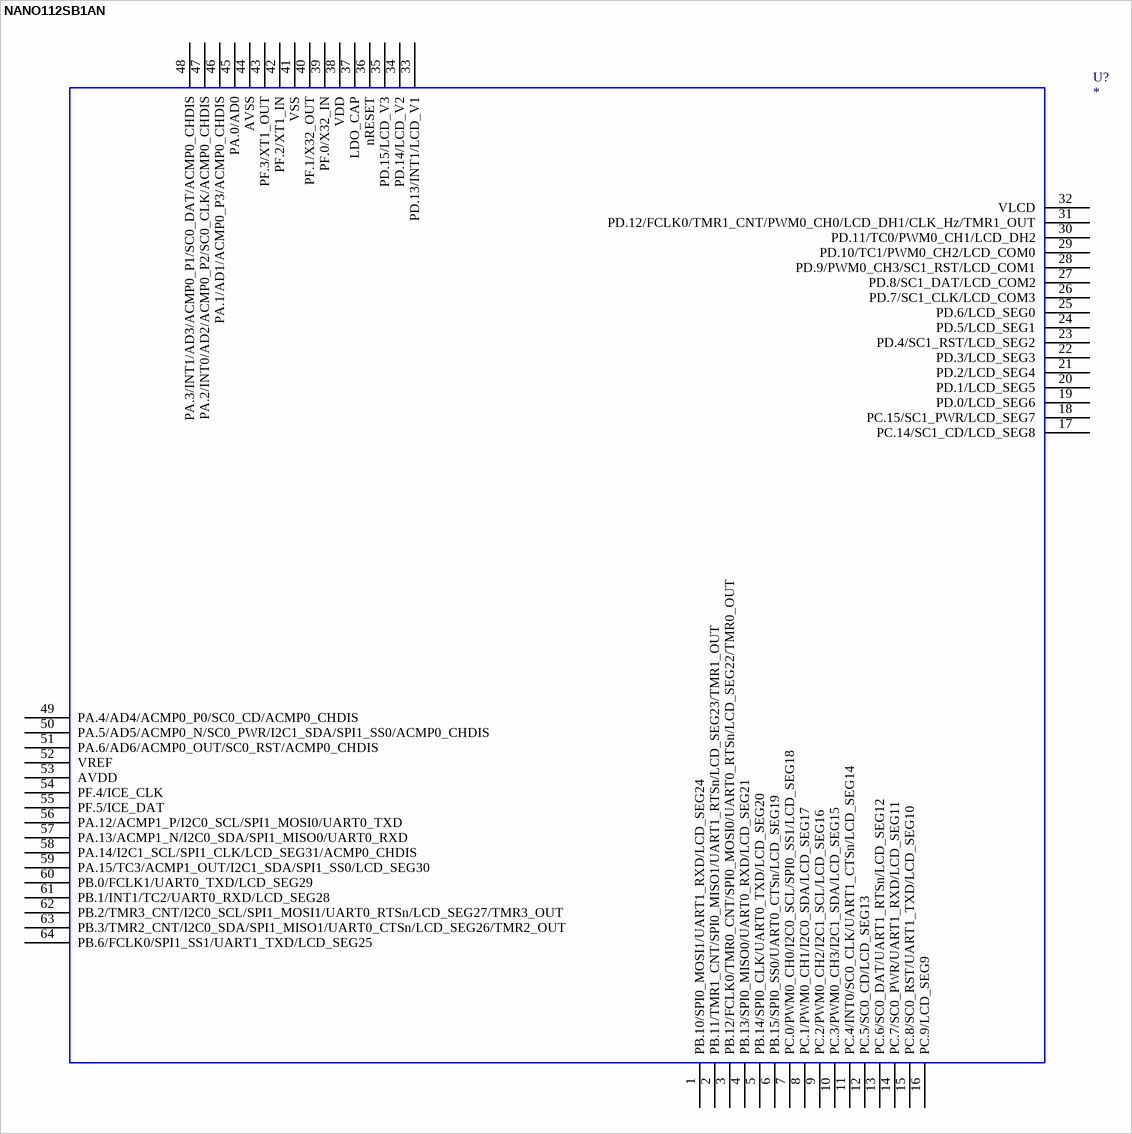
[diagram p9: symbol NANO112SB1AN]

## NANO112SB1AN
designator U?
NANO112SB1AN; OriginalSymbolOrigin: *; NANO112SB1AN: *; Value: *
footprint __MCU_LQFP_64_7x7__
pins: 1 PB.10/SPI0_MOSI1/UART1_RXD/LCD_SEG24, 2 PB.11/TMR1_CNT/SPI0_MISO1/UART1_RTSn/LCD_SEG23/TMR1_OUT, 3 PB.12/FCLK0/TMR0_CNT/SPI0_MOSI0/UART0_RTSn/LCD_SEG22/TMR0_OUT, 4 PB.13/SPI0_MISO0/UART0_RXD/LCD_SEG21, 5 PB.14/SPI0_CLK/UART0_TXD/LCD_SEG20, 6 PB.15/SPI0_SS0/UART0_CTSn/LCD_SEG19, 7 PC.0/PWM0_CH0/I2C0_SCL/SPI0_SS1/LCD_SEG18, 8 PC.1/PWM0_CH1/I2C0_SDA/LCD_SEG17, 9 PC.2/PWM0_CH2/I2C1_SCL/LCD_SEG16, 10 PC.3/PWM0_CH3/I2C1_SDA/LCD_SEG15, 11 PC.4/INT0/SC0_CLK/UART1_CTSn/LCD_SEG14, 12 PC.5/SC0_CD/LCD_SEG13, 13 PC.6/SC0_DAT/UART1_RTSn/LCD_SEG12, 14 PC.7/SC0_PWR/UART1_RXD/LCD_SEG11, 15 PC.8/SC0_RST/UART1_TXD/LCD_SEG10, 16 PC.9/LCD_SEG9, 17 PC.14/SC1_CD/LCD_SEG8, 18 PC.15/SC1_PWR/LCD_SEG7, 19 PD.0/LCD_SEG6, 20 PD.1/LCD_SEG5, 21 PD.2/LCD_SEG4, 22 PD.3/LCD_SEG3, 23 PD.4/SC1_RST/LCD_SEG2, 24 PD.5/LCD_SEG1, 25 PD.6/LCD_SEG0, 26 PD.7/SC1_CLK/LCD_COM3, 27 PD.8/SC1_DAT/LCD_COM2, 28 PD.9/PWM0_CH3/SC1_RST/LCD_COM1, 29 PD.10/TC1/PWM0_CH2/LCD_COM0, 30 PD.11/TC0/PWM0_CH1/LCD_DH2, 31 PD.12/FCLK0/TMR1_CNT/PWM0_CH0/LCD_DH1/CLK_Hz/TMR1_OUT, 32 VLCD, 33 PD.13/INT1/LCD_V1, 34 PD.14/LCD_V2, 35 PD.15/LCD_V3, 36 nRESET, 37 LDO_CAP, 38 VDD, 39 PF.0/X32_IN, 40 PF.1/X32_OUT, 41 VSS, 42 PF.2/XT1_IN, 43 PF.3/XT1_OUT, 44 AVSS, 45 PA.0/AD0, 46 PA.1/AD1/ACMP0_P3/ACMP0_CHDIS, 47 PA.2/INT0/AD2/ACMP0_P2/SC0_CLK/ACMP0_CHDIS, 48 PA.3/INT1/AD3/ACMP0_P1/SC0_DAT/ACMP0_CHDIS, 49 PA.4/AD4/ACMP0_P0/SC0_CD/ACMP0_CHDIS, 50 PA.5/AD5/ACMP0_N/SC0_PWR/I2C1_SDA/SPI1_SS0/ACMP0_CHDIS, 51 PA.6/AD6/ACMP0_OUT/SC0_RST/ACMP0_CHDIS, 52 VREF, 53 AVDD, 54 PF.4/ICE_CLK, 55 PF.5/ICE_DAT, 56 PA.12/ACMP1_P/I2C0_SCL/SPI1_MOSI0/UART0_TXD, 57 PA.13/ACMP1_N/I2C0_SDA/SPI1_MISO0/UART0_RXD, 58 PA.14/I2C1_SCL/SPI1_CLK/LCD_SEG31/ACMP0_CHDIS, 59 PA.15/TC3/ACMP1_OUT/I2C1_SDA/SPI1_SS0/LCD_SEG30, 60 PB.0/FCLK1/UART0_TXD/LCD_SEG29, 61 PB.1/INT1/TC2/UART0_RXD/LCD_SEG28, 62 PB.2/TMR3_CNT/I2C0_SCL/SPI1_MOSI1/UART0_RTSn/LCD_SEG27/TMR3_OUT, 63 PB.3/TMR2_CNT/I2C0_SDA/SPI1_MISO1/UART0_CTSn/LCD_SEG26/TMR2_OUT, 64 PB.6/FCLK0/SPI1_SS1/UART1_TXD/LCD_SEG25
2 alternate drawings of the same symbol

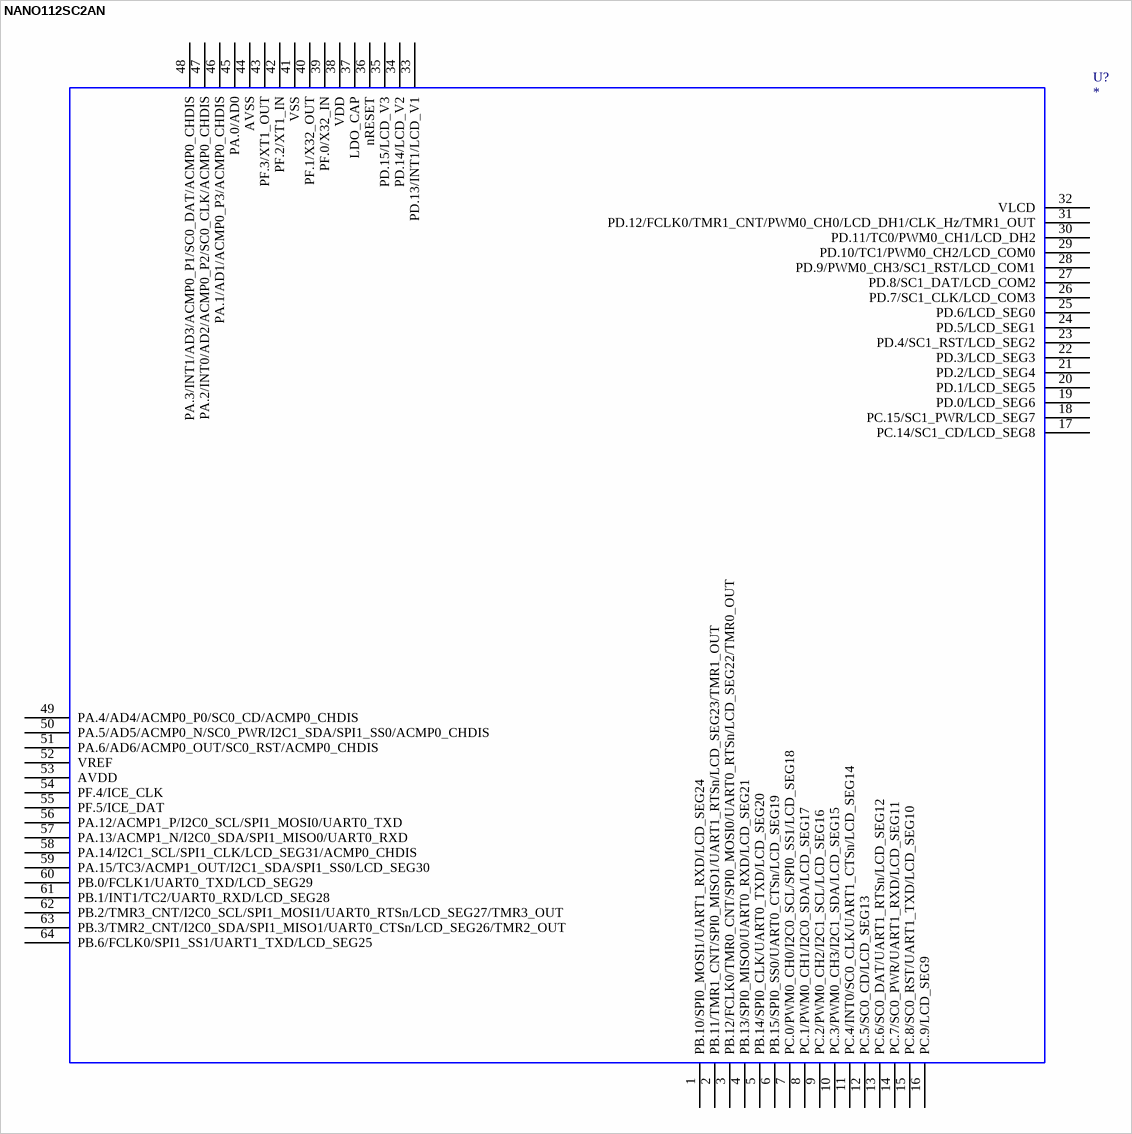
[diagram p10: symbol NANO112SC2AN]

## NANO112SC2AN
designator U?
NANO112SC2AN; OriginalSymbolOrigin: *; NANO112SC2AN: *; Value: *
footprint __MCU_LQFP_64_7x7__
pins: 1 PB.10/SPI0_MOSI1/UART1_RXD/LCD_SEG24, 2 PB.11/TMR1_CNT/SPI0_MISO1/UART1_RTSn/LCD_SEG23/TMR1_OUT, 3 PB.12/FCLK0/TMR0_CNT/SPI0_MOSI0/UART0_RTSn/LCD_SEG22/TMR0_OUT, 4 PB.13/SPI0_MISO0/UART0_RXD/LCD_SEG21, 5 PB.14/SPI0_CLK/UART0_TXD/LCD_SEG20, 6 PB.15/SPI0_SS0/UART0_CTSn/LCD_SEG19, 7 PC.0/PWM0_CH0/I2C0_SCL/SPI0_SS1/LCD_SEG18, 8 PC.1/PWM0_CH1/I2C0_SDA/LCD_SEG17, 9 PC.2/PWM0_CH2/I2C1_SCL/LCD_SEG16, 10 PC.3/PWM0_CH3/I2C1_SDA/LCD_SEG15, 11 PC.4/INT0/SC0_CLK/UART1_CTSn/LCD_SEG14, 12 PC.5/SC0_CD/LCD_SEG13, 13 PC.6/SC0_DAT/UART1_RTSn/LCD_SEG12, 14 PC.7/SC0_PWR/UART1_RXD/LCD_SEG11, 15 PC.8/SC0_RST/UART1_TXD/LCD_SEG10, 16 PC.9/LCD_SEG9, 17 PC.14/SC1_CD/LCD_SEG8, 18 PC.15/SC1_PWR/LCD_SEG7, 19 PD.0/LCD_SEG6, 20 PD.1/LCD_SEG5, 21 PD.2/LCD_SEG4, 22 PD.3/LCD_SEG3, 23 PD.4/SC1_RST/LCD_SEG2, 24 PD.5/LCD_SEG1, 25 PD.6/LCD_SEG0, 26 PD.7/SC1_CLK/LCD_COM3, 27 PD.8/SC1_DAT/LCD_COM2, 28 PD.9/PWM0_CH3/SC1_RST/LCD_COM1, 29 PD.10/TC1/PWM0_CH2/LCD_COM0, 30 PD.11/TC0/PWM0_CH1/LCD_DH2, 31 PD.12/FCLK0/TMR1_CNT/PWM0_CH0/LCD_DH1/CLK_Hz/TMR1_OUT, 32 VLCD, 33 PD.13/INT1/LCD_V1, 34 PD.14/LCD_V2, 35 PD.15/LCD_V3, 36 nRESET, 37 LDO_CAP, 38 VDD, 39 PF.0/X32_IN, 40 PF.1/X32_OUT, 41 VSS, 42 PF.2/XT1_IN, 43 PF.3/XT1_OUT, 44 AVSS, 45 PA.0/AD0, 46 PA.1/AD1/ACMP0_P3/ACMP0_CHDIS, 47 PA.2/INT0/AD2/ACMP0_P2/SC0_CLK/ACMP0_CHDIS, 48 PA.3/INT1/AD3/ACMP0_P1/SC0_DAT/ACMP0_CHDIS, 49 PA.4/AD4/ACMP0_P0/SC0_CD/ACMP0_CHDIS, 50 PA.5/AD5/ACMP0_N/SC0_PWR/I2C1_SDA/SPI1_SS0/ACMP0_CHDIS, 51 PA.6/AD6/ACMP0_OUT/SC0_RST/ACMP0_CHDIS, 52 VREF, 53 AVDD, 54 PF.4/ICE_CLK, 55 PF.5/ICE_DAT, 56 PA.12/ACMP1_P/I2C0_SCL/SPI1_MOSI0/UART0_TXD, 57 PA.13/ACMP1_N/I2C0_SDA/SPI1_MISO0/UART0_RXD, 58 PA.14/I2C1_SCL/SPI1_CLK/LCD_SEG31/ACMP0_CHDIS, 59 PA.15/TC3/ACMP1_OUT/I2C1_SDA/SPI1_SS0/LCD_SEG30, 60 PB.0/FCLK1/UART0_TXD/LCD_SEG29, 61 PB.1/INT1/TC2/UART0_RXD/LCD_SEG28, 62 PB.2/TMR3_CNT/I2C0_SCL/SPI1_MOSI1/UART0_RTSn/LCD_SEG27/TMR3_OUT, 63 PB.3/TMR2_CNT/I2C0_SDA/SPI1_MISO1/UART0_CTSn/LCD_SEG26/TMR2_OUT, 64 PB.6/FCLK0/SPI1_SS1/UART1_TXD/LCD_SEG25
2 alternate drawings of the same symbol

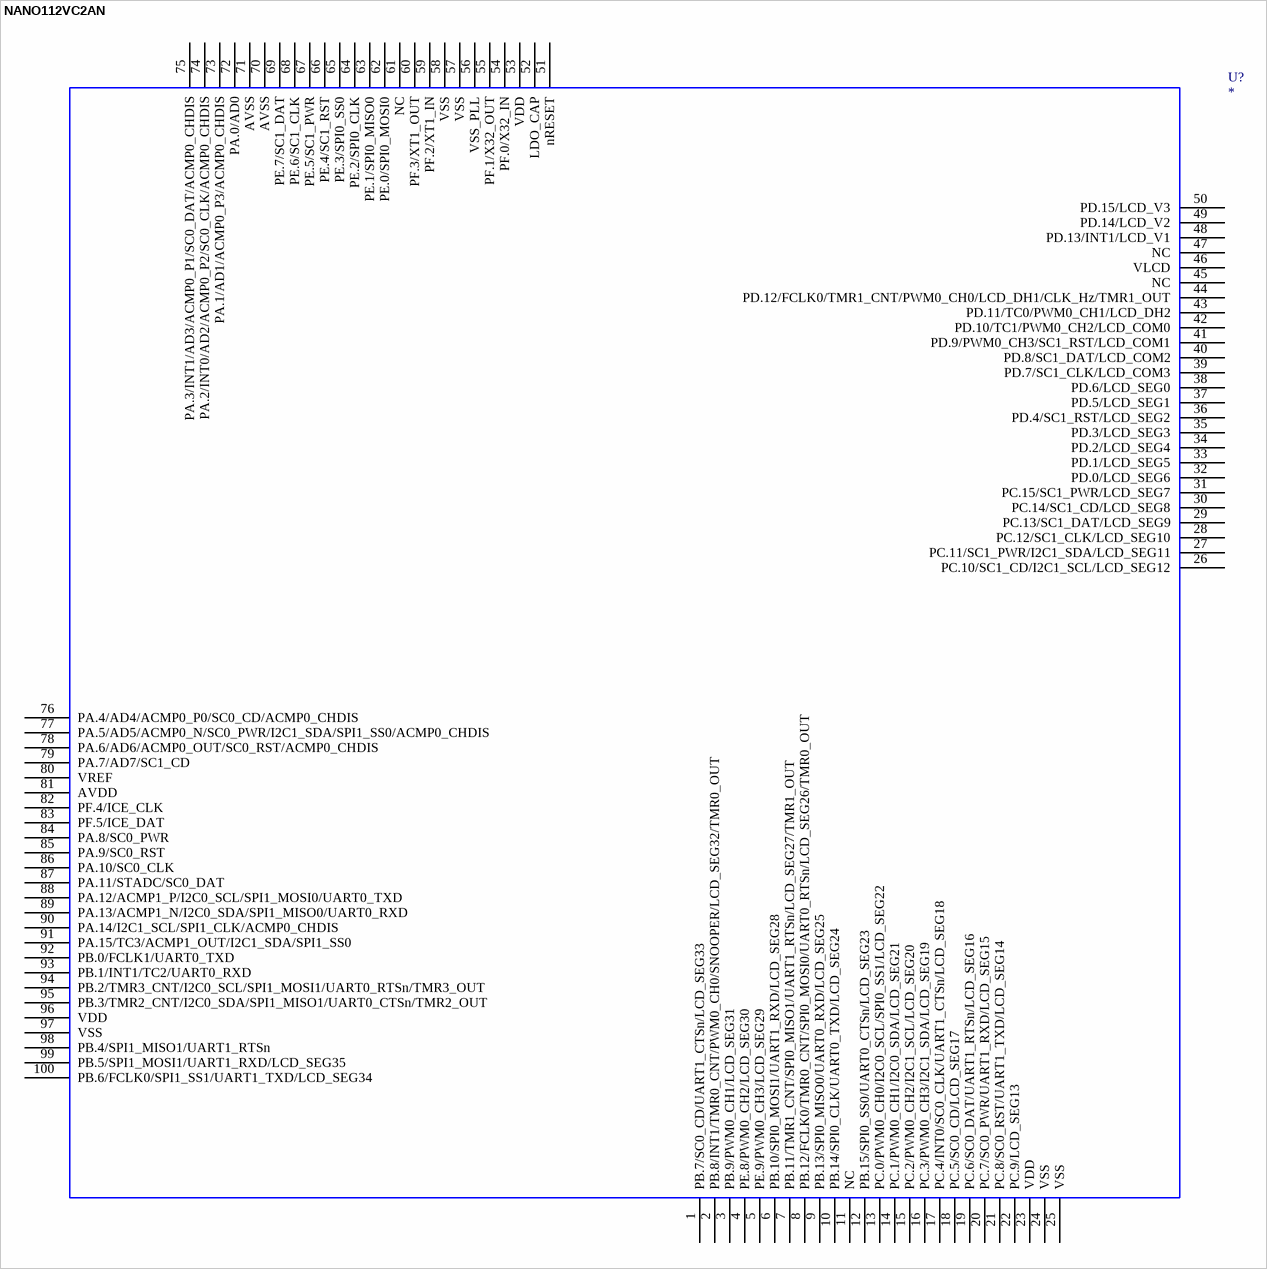
[diagram p11: symbol NANO112VC2AN]

## NANO112VC2AN
designator U?
NANO112VC2AN; OriginalSymbolOrigin: *; NANO112VC2AN: *; Value: *
footprint __MCU_LQFP_100__
pins: 1 PB.7/SC0_CD/UART1_CTSn/LCD_SEG33, 2 PB.8/INT1/TMR0_CNT/PWM0_CH0/SNOOPER/LCD_SEG32/TMR0_OUT, 3 PB.9/PWM0_CH1/LCD_SEG31, 4 PE.8/PWM0_CH2/LCD_SEG30, 5 PE.9/PWM0_CH3/LCD_SEG29, 6 PB.10/SPI0_MOSI1/UART1_RXD/LCD_SEG28, 7 PB.11/TMR1_CNT/SPI0_MISO1/UART1_RTSn/LCD_SEG27/TMR1_OUT, 8 PB.12/FCLK0/TMR0_CNT/SPI0_MOSI0/UART0_RTSn/LCD_SEG26/TMR0_OUT, 9 PB.13/SPI0_MISO0/UART0_RXD/LCD_SEG25, 10 PB.14/SPI0_CLK/UART0_TXD/LCD_SEG24, 11 NC, 12 PB.15/SPI0_SS0/UART0_CTSn/LCD_SEG23, 13 PC.0/PWM0_CH0/I2C0_SCL/SPI0_SS1/LCD_SEG22, 14 PC.1/PWM0_CH1/I2C0_SDA/LCD_SEG21, 15 PC.2/PWM0_CH2/I2C1_SCL/LCD_SEG20, 16 PC.3/PWM0_CH3/I2C1_SDA/LCD_SEG19, 17 PC.4/INT0/SC0_CLK/UART1_CTSn/LCD_SEG18, 18 PC.5/SC0_CD/LCD_SEG17, 19 PC.6/SC0_DAT/UART1_RTSn/LCD_SEG16, 20 PC.7/SC0_PWR/UART1_RXD/LCD_SEG15, 21 PC.8/SC0_RST/UART1_TXD/LCD_SEG14, 22 PC.9/LCD_SEG13, 23 VDD, 24 VSS, 25 VSS, 26 PC.10/SC1_CD/I2C1_SCL/LCD_SEG12, 27 PC.11/SC1_PWR/I2C1_SDA/LCD_SEG11, 28 PC.12/SC1_CLK/LCD_SEG10, 29 PC.13/SC1_DAT/LCD_SEG9, 30 PC.14/SC1_CD/LCD_SEG8, 31 PC.15/SC1_PWR/LCD_SEG7, 32 PD.0/LCD_SEG6, 33 PD.1/LCD_SEG5, 34 PD.2/LCD_SEG4, 35 PD.3/LCD_SEG3, 36 PD.4/SC1_RST/LCD_SEG2, 37 PD.5/LCD_SEG1, 38 PD.6/LCD_SEG0, 39 PD.7/SC1_CLK/LCD_COM3, 40 PD.8/SC1_DAT/LCD_COM2, 41 PD.9/PWM0_CH3/SC1_RST/LCD_COM1, 42 PD.10/TC1/PWM0_CH2/LCD_COM0, 43 PD.11/TC0/PWM0_CH1/LCD_DH2, 44 PD.12/FCLK0/TMR1_CNT/PWM0_CH0/LCD_DH1/CLK_Hz/TMR1_OUT, 45 NC, 46 VLCD, 47 NC, 48 PD.13/INT1/LCD_V1, 49 PD.14/LCD_V2, 50 PD.15/LCD_V3, 51 nRESET, 52 LDO_CAP, 53 VDD, 54 PF.0/X32_IN, 55 PF.1/X32_OUT, 56 VSS_PLL, 57 VSS, 58 VSS, 59 PF.2/XT1_IN, 60 PF.3/XT1_OUT, 61 NC, 62 PE.0/SPI0_MOSI0, 63 PE.1/SPI0_MISO0, 64 PE.2/SPI0_CLK, 65 PE.3/SPI0_SS0, 66 PE.4/SC1_RST, 67 PE.5/SC1_PWR, 68 PE.6/SC1_CLK, 69 PE.7/SC1_DAT, 70 AVSS, 71 AVSS, 72 PA.0/AD0, 73 PA.1/AD1/ACMP0_P3/ACMP0_CHDIS, 74 PA.2/INT0/AD2/ACMP0_P2/SC0_CLK/ACMP0_CHDIS, 75 PA.3/INT1/AD3/ACMP0_P1/SC0_DAT/ACMP0_CHDIS, 76 PA.4/AD4/ACMP0_P0/SC0_CD/ACMP0_CHDIS, 77 PA.5/AD5/ACMP0_N/SC0_PWR/I2C1_SDA/SPI1_SS0/ACMP0_CHDIS, 78 PA.6/AD6/ACMP0_OUT/SC0_RST/ACMP0_CHDIS, 79 PA.7/AD7/SC1_CD, 80 VREF, 81 AVDD, 82 PF.4/ICE_CLK, 83 PF.5/ICE_DAT, 84 PA.8/SC0_PWR, 85 PA.9/SC0_RST, 86 PA.10/SC0_CLK, 87 PA.11/STADC/SC0_DAT, 88 PA.12/ACMP1_P/I2C0_SCL/SPI1_MOSI0/UART0_TXD, 89 PA.13/ACMP1_N/I2C0_SDA/SPI1_MISO0/UART0_RXD, 90 PA.14/I2C1_SCL/SPI1_CLK/ACMP0_CHDIS, 91 PA.15/TC3/ACMP1_OUT/I2C1_SDA/SPI1_SS0, 92 PB.0/FCLK1/UART0_TXD, 93 PB.1/INT1/TC2/UART0_RXD, 94 PB.2/TMR3_CNT/I2C0_SCL/SPI1_MOSI1/UART0_RTSn/TMR3_OUT, 95 PB.3/TMR2_CNT/I2C0_SDA/SPI1_MISO1/UART0_CTSn/TMR2_OUT, 96 VDD, 97 VSS, 98 PB.4/SPI1_MISO1/UART1_RTSn, 99 PB.5/SPI1_MOSI1/UART1_RXD/LCD_SEG35, 100 PB.6/FCLK0/SPI1_SS1/UART1_TXD/LCD_SEG34
2 alternate drawings of the same symbol